# Altium schematic symbol library HJ WL-433 原理图库SchLib.SchLib: 1 symbol
Pins are listed as number, name and electrical type; pins without a type are passive.

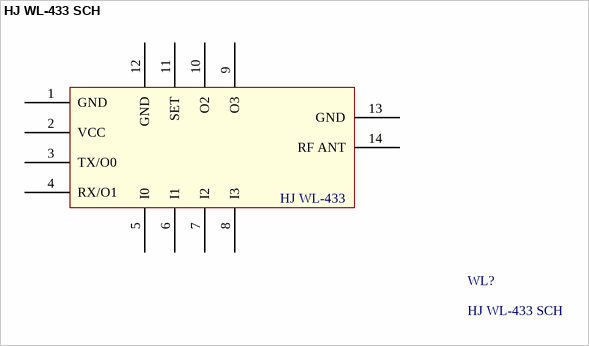
[diagram p0: symbol HJ WL-433 SCH]

## HJ WL-433 SCH
designator WL?
pins: 1 GND, 2 VCC, 3 TX/O0, 4 RX/O1, 5 I0, 6 I1, 7 I2, 8 I3, 9 O3, 10 O2, 11 SET, 12 GND, 13 GND, 14 RF ANT
text: HJ WL-433